# Altium footprint library SO_TSSOP_SOT_SOP.PcbLib: 33 footprints (part 2 of 3)
Each footprint in its own frame and in the unit in brackets; x right, y up, seen from the top. Pads: shape width x height; smd on the part's side, far side on the other; paste and mask are expansions set on the pad; w line width, h text height; cw(c..) or ccw(c..) is an arc to the next point about the centre after c.
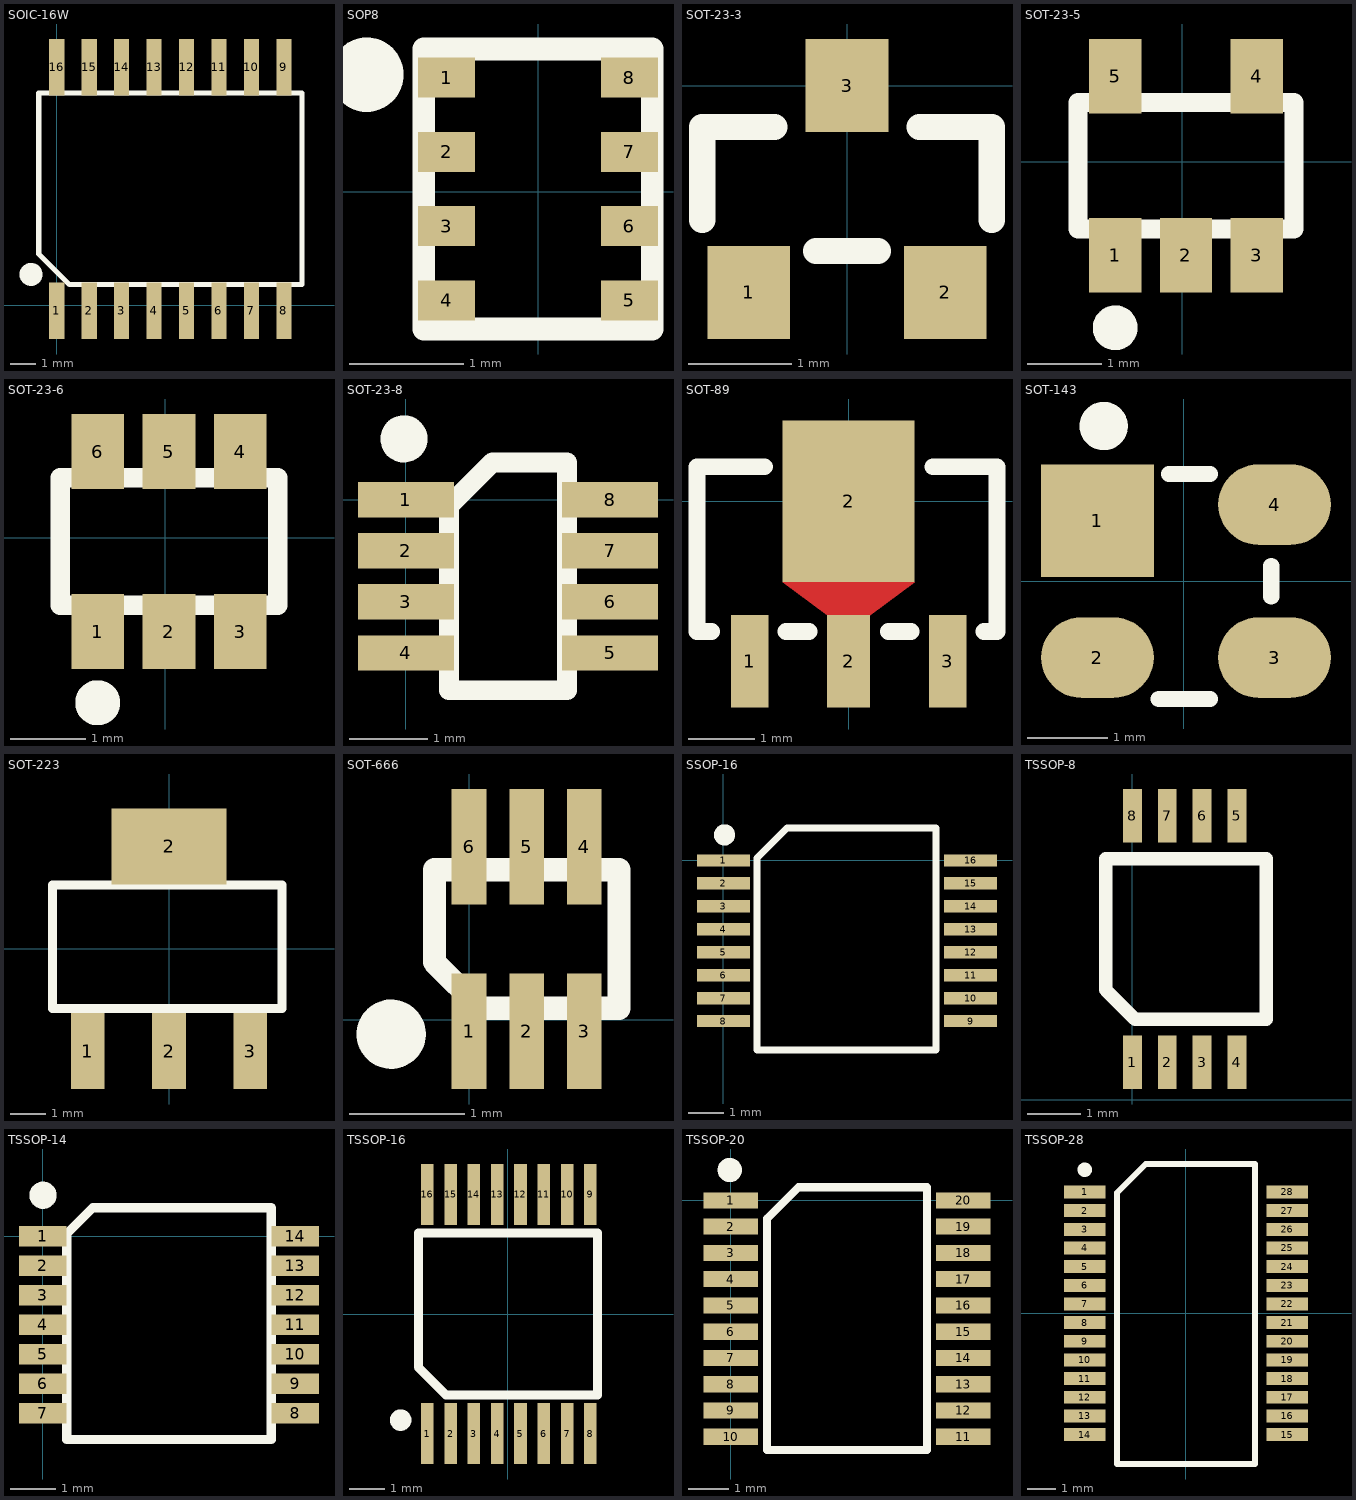
[diagram p1: the footprints below, top view; thin cyan lines are the x and y axes]

## SOIC-16W [mm]
pads (16):
  rect 0.6x2.2 smd: 1(0,-0.225) 2(1.27,-0.225) 3(2.54,-0.225) 4(3.81,-0.225) 5(5.08,-0.225) 6(6.35,-0.225) 7(7.62,-0.225) 8(8.89,-0.225) 9(8.89,9.305) 10(7.62,9.305) 11(6.35,9.305) 12(5.08,9.305) 13(3.81,9.305) 14(2.54,9.305) 15(1.27,9.305) 16(0,9.305)
Top Overlay:
  circle w0.5: c-1,1.2 r0.2
  lines w0.2: -0.7,2 0.5,0.8 9.6,0.8 9.6,8.3 -0.7,8.3 -0.7,2
3D body "User Library-SOIC16_Wide_JEDEC_MS-013AA.step": height 2.62, standoff -0.03, extent -0.8,-0.69 9.7,9.94

## SOP8 [mm]
pads (8):
  rect 0.5x0.35 smd: 1(-0.8,1) 2(-0.8,0.35) 3(-0.8,-0.3) 4(-0.8,-0.95) 5(0.8,-0.95) 6(0.8,-0.3) 7(0.8,0.35) 8(0.8,1)
Top Overlay:
  circle w0.5: c-1.5,1.025 r0.075
  lines w0.2: -1,-1.2 -1,1.25 1,1.25 1,-1.2 -1,-1.2
3D body: height 1, standoff 0.13, extent -0.875,-1.1 0.875,1.15
3D body: height 0.13, standoff 0, extent -1,-1.225 1,1.275

## SOT-23-3 [mm]
pads (3):
  rect 0.8x0.9 smd: 1(-0.95,-2) 2(0.95,-2) 3(0,0)
Top Overlay:
  lines w0.254: -1.4,-1.3 -1.4,-0.4 -0.7,-0.4 ; -0.3,-1.6 0.3,-1.6 ; 0.7,-0.4 1.4,-0.4 1.4,-1.3
3D body "User Library-SOT-23-2.STEP": height 1.08, standoff 0, extent -1.5,-2.32 1.5,0.32

## SOT-23-5 [mm]
pads (5):
  rect 0.7x1 smd: 1(-0.9,-1.25) 2(0.05,-1.25) 3(1,-1.25) 4(1,1.15) 5(-0.9,1.15)
Top Overlay:
  circle w0.3: c-0.9,-2.225 r0.15
  lines w0.254: -1.4,-0.9 -1.4,0.8 1.5,0.8 1.5,-0.9 -1.4,-0.9
3D body "User Library-SOT23-5-1.STEP": height 1.3, standoff 0, extent -1.5,-1.5 1.5,1.5

## SOT-23-6 [mm]
pads (6):
  rect 0.7x1 smd: 1(-0.9,-1.25) 2(0.05,-1.25) 3(1,-1.25) 4(1,1.15) 5(0.05,1.15) 6(-0.9,1.15)
Top Overlay:
  circle w0.3: c-0.9,-2.2 r0.15
  lines w0.254: -1.4,-0.9 -1.4,0.8 1.5,0.8 1.5,-0.9 -1.4,-0.9
3D body "User Library-SOT23-6-2.STEP": height 1.45, standoff 0, extent -1.45,-1.4 1.45,1.4

## SOT-23-8 [mm]
pads (8):
  rect 1.22x0.45 smd: 1(0,0) 2(0,-0.65) 3(0,-1.3) 4(0,-1.95) 5(2.6,-1.95) 6(2.6,-1.3) 7(2.6,-0.65) 8(2.6,0)
Top Overlay:
  circle w0.3: c-0.025,0.775 r0.15
  lines w0.254: 0.55,-2.425 0.55,-0.075 1.1,0.475 2.05,0.475 2.05,-2.425 0.55,-2.425
3D body "User Library-TSOT-23-8.STEP": height 1, standoff 0, extent -0.15,-2.45 2.65,0.45

## SOT-89 [mm]
pads (4):
  rect 0.57x1.4 smd: 1(-1.5,-2.425) 3(1.5,-2.425)
  rect 0.65x1.4 smd: 2(0,-2.425)
  rect 2x2.45 smd: 2(0,0)
Top Layer:
  region: 0.325,-1.725 1,-1.225 -1,-1.225 -0.325,-1.725
Top Overlay:
  lines w0.254: -2.075,-1.975 -2.3,-1.975 -2.3,0.525 -1.275,0.525 ; -0.95,-1.975 -0.6,-1.975 ; 0.6,-1.975 0.95,-1.975 ; 1.275,0.525 2.25,0.525 2.25,-1.975 2.05,-1.975
Top Solder:
  region: -1.1,-1.325 -0.425,-1.825 0.425,-1.825 1.1,-1.325
3D body "SW3dPS-SOT89.STEP": height 1.59, standoff -0.02, extent -2.315,-3.058 2.286,1.192

## SOT-143 [mm]
pads (4):
  rect 1.4x1.4 smd: 1(-1.075,0.75)
  oval 1.4x1 smd: 2(-1.075,-0.95) 3(1.125,-0.95) 4(1.125,0.95)
Top Overlay:
  circle w0.3: c-0.997,1.925 r0.15
  lines w0.2: -0.313,-1.463 0.322,-1.463 ; -0.186,1.331 0.322,1.331 ; 1.084,-0.193 1.084,0.188
3D body "User Library-sot143.STEP": height 1, standoff 0, extent -1.41,-1.135 1.51,1.285

## SOT-223 [mm]
pads (4):
  rect 0.95x2.15 smd: 1(-2.3,-2.9) 2(0,-2.9) 3(2.3,-2.9)
  rect 3.25x2.15 smd: 2(0,2.9)
Top Overlay:
  lines w0.254: -3.3,-1.7 3.2,-1.7 3.2,1.8 -3.3,1.8 -3.3,-1.7
3D body "User Library-SOT223-3.STEP": height 1.7, standoff 0, extent -3.25,-3.5 3.25,3.5

## SOT-666 [mm]
pads (6):
  rect 0.3x1 smd: 1(0,-0.1) 2(0.5,-0.1) 3(1,-0.1) 4(1,1.5) 5(0.5,1.5) 6(0,1.5)
Top Overlay:
  circle w0.3: c-0.675,-0.125 r0.15
  lines w0.2: -0.3,0.5 0.1,0.1 1.3,0.1 1.3,1.3 -0.3,1.3 -0.3,0.5
3D body "User Library-SOT50P160X60-6.STEP": height 0.6, standoff 0, extent -0.295,-0.1 1.295,1.5

## SSOP-16 [mm]
pads (16):
  rect 1.5x0.35 smd: 1(0,0) 2(0,-0.65) 3(0,-1.3) 4(0,-1.95) 5(0,-2.6) 6(0,-3.25) 7(0,-3.9) 8(0,-4.55) 9(7,-4.55) 10(7,-3.9) 11(7,-3.25) 12(7,-2.6) 13(7,-1.95) 14(7,-1.3) 15(7,-0.65) 16(7,0)
Top Overlay:
  circle w0.3: c0.028,0.725 r0.15
  lines w0.2: 3.225,0.925 1.8,0.925 0.95,0.075 0.95,-5.375 6.025,-5.375 6.025,0.925 3.25,0.925
3D body "SW3dPS-ssop-16 pos.STEP": height 1.89, standoff -0.09, extent -0.45,-5.412 7.45,0.912

## TSSOP-8 [mm]
pads (8):
  rect 0.35x1 smd: 1(0,0.7) 2(0.65,0.7) 3(1.3,0.7) 4(1.95,0.7) 5(1.95,5.3) 6(1.3,5.3) 7(0.65,5.3) 8(0,5.3)
Top Overlay:
  lines w0.254: -0.5,2.05 -0.5,4.5 2.5,4.5 2.5,1.5 0.05,1.5 -0.5,2.05
3D body "User Library-TSSOP-8 3_1x3_1.STEP": height 1.1, standoff 0, extent -0.55,0.5 2.55,5.5

## TSSOP-14 [mm]
pads (14):
  rect 1.05x0.45 smd: 1(0,0) 2(0,-0.65) 3(0,-1.3) 4(0,-1.95) 5(0,-2.6) 6(0,-3.25) 7(0,-3.9) 8(5.55,-3.9) 9(5.55,-3.25) 10(5.55,-2.6) 11(5.55,-1.95) 12(5.55,-1.3) 13(5.55,-0.65) 14(5.55,0)
Top Overlay:
  circle w0.3: c0.003,0.9 r0.15
  lines w0.2: 0.525,-4.475 5.025,-4.475 5.025,0.625 1.1,0.625 0.525,0.05 0.525,-4.475
3D body "SW3dPS-TSSOP14-1.STEP": height 1.1, standoff 0, extent -0.425,-4.425 5.975,0.575

## TSSOP-16 [mm]
pads (16):
  rect 0.35x1.7 smd: 1(-2.25,-3.325) 2(-1.6,-3.325) 3(-0.95,-3.325) 4(-0.3,-3.325) 5(0.35,-3.325) 6(1,-3.325) 7(1.65,-3.325) 8(2.3,-3.325) 9(2.3,3.35) 10(1.65,3.35) 11(1,3.35) 12(0.35,3.35) 13(-0.3,3.35) 14(-0.95,3.35) 15(-1.6,3.35) 16(-2.25,3.35)
Top Overlay:
  circle w0.3: c-2.997,-2.95 r0.15
  lines w0.254: -2.5,-1.475 -1.725,-2.25 2.5,-2.25 2.5,2.275 -2.5,2.275 -2.5,-1.475
3D body "User Library-TSSOP-16-1.STEP": height 1.1, standoff 0, extent -2.475,-3.2 2.525,3.2

## TSSOP-20 [mm]
pads (20):
  rect 1.35x0.4 smd: 1(0,0) 2(0,-0.65) 3(0,-1.3) 4(0,-1.95) 5(0,-2.6) 6(0,-3.25) 7(0,-3.9) 8(0,-4.55) 9(0,-5.2) 10(0,-5.85) 11(5.75,-5.85) 12(5.75,-5.2) 13(5.75,-4.55) 14(5.75,-3.9) 15(5.75,-3.25) 16(5.75,-2.6) 17(5.75,-1.95) 18(5.75,-1.3) 19(5.75,-0.65) 20(5.75,0)
Top Overlay:
  circle w0.3: c-0.025,0.75 r0.15
  lines w0.2: 3.037,0.325 4.85,0.325 4.85,-6.175 0.9,-6.175 0.9,-0.45 1.675,0.325 3.05,0.325
3D body "User Library-tssop-20-1.STEP": height 1.2, standoff 0, extent -0.425,-6.225 6.175,0.375

## TSSOP-28 [mm] "SOP, 28-Leads, Body 10,00x5,30mm, Pitch 0,65mm, IPC High Density"
height 2
pads (28):
  rect 1.45x0.45 smd: 1(-3.525,4.225) 2(-3.525,3.575) 3(-3.525,2.925) 4(-3.525,2.275) 5(-3.525,1.625) 6(-3.525,0.975) 7(-3.525,0.325) 8(-3.525,-0.325) 9(-3.525,-0.975) 10(-3.525,-1.625) 11(-3.525,-2.275) 12(-3.525,-2.925) 13(-3.525,-3.575) 14(-3.525,-4.225) 15(3.525,-4.225) 16(3.525,-3.575) 17(3.525,-2.925) 18(3.525,-2.275) 19(3.525,-1.625) 20(3.525,-0.975) 21(3.525,-0.325) 22(3.525,0.325) 23(3.525,0.975) 24(3.525,1.625) 25(3.525,2.275) 26(3.525,2.925) 27(3.525,3.575) 28(3.525,4.225)
Top Overlay:
  circle w0.25: c-3.525,5 r0.125
  lines w0.2: -2.4,-5.25 2.4,-5.25 2.4,5.2 -1.4,5.2 -2.4,4.2 -2.4,-5.25
3D body "User Library-TSSOP-28W.STEP": height 1.2, standoff 0, extent -4.05,-4.85 4.05,4.85